# EAGLE library part U-F-M5DD-Y-L (library SamacSys_Parts)
USB Connector Source: Datasheet <https://datasheet.lcsc.com/szlcsc/1903211730_Korean-Hroparts-Elec-U-F-M5DD-Y-L_C91146.pdf>
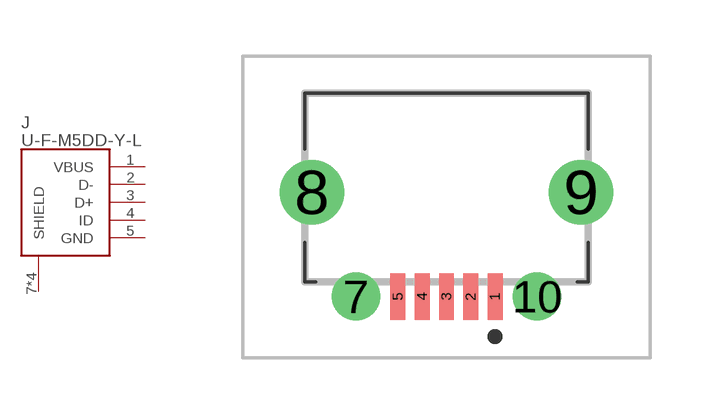
[diagram p5: symbol with the pads of UFM5DDYL; footprint UFM5DDYL]

Designator prefix J

## U-F-M5DD-Y-L (DESCRIPTION: USB Connector; HEIGHT: 3.4mm; LCSC_PART_NUMBER: C91146; LCSC_PRICE-STOCK: https://lcsc.com/product-detail/Micro-USB-Connectors_Korean-Hroparts-Elec-U-F-M5DD-Y-L_C91146.html; MANUFACTURER_NAME: Korean Hroparts Elec; MANUFACTURER_PART_NUMBER: U-F-M5DD-Y-L)  [UFM5DDYL]
1  VBUS
2  D-
3  D+
4  ID
5  GND
7  SHIELD
8  SHIELD
9  SHIELD
10  SHIELD

## Footprint UFM5DDYL (pad centres in mm)
U-F-M5DD-Y-L-1
smd 0.4 x 1.25: 1 1.3,-2.725; 2 0.65,-2.725; 3 0,-2.725; 4 -0.65,-2.725; 5 -1.3,-2.725
drill 0.7 pad 1.29: 7 -2.425,-2.725; 10 2.425,-2.725
drill 1.15 pad 1.725: 8 -3.6,0.075; 9 3.6,0.075